# EAGLE library part STM32H753VIT (library dawidkulpa_dev)
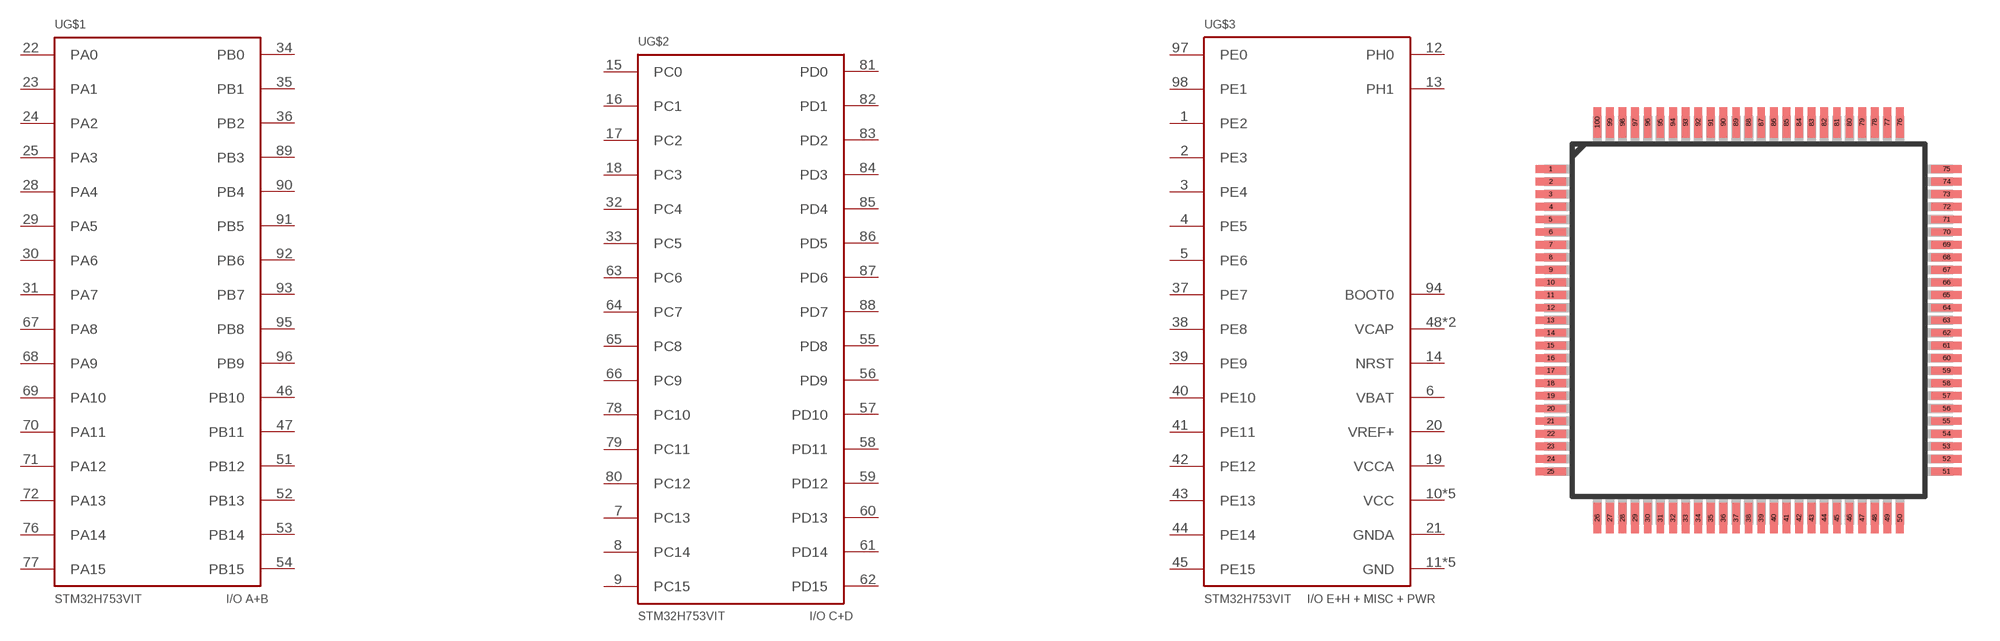
[diagram p35: symbol with the pads of LQFP100_14X14; footprint LQFP100_14X14]

Designator prefix U; gates G$1=STM32H753VIT_PART1 G$2=STM32H753VIT_PART2 G$3=STM32H753VIT_PART3

## STM32H753VIT  [LQFP100_14X14]
1  G$3:PE2
2  G$3:PE3
3  G$3:PE4
4  G$3:PE5
5  G$3:PE6
6  G$3:VBAT
7  G$2:PC13
8  G$2:PC14
9  G$2:PC15
10  G$3:VCC
11  G$3:GND
12  G$3:PH0
13  G$3:PH1
14  G$3:NRST
15  G$2:PC0
16  G$2:PC1
17  G$2:PC2
18  G$2:PC3
19  G$3:VCCA
20  G$3:VREF+
21  G$3:GNDA
22  G$1:PA0
23  G$1:PA1
24  G$1:PA2
25  G$1:PA3
26  G$3:VCC
27  G$3:GND
28  G$1:PA4
29  G$1:PA5
30  G$1:PA6
31  G$1:PA7
32  G$2:PC4
33  G$2:PC5
34  G$1:PB0
35  G$1:PB1
36  G$1:PB2
37  G$3:PE7
38  G$3:PE8
39  G$3:PE9
40  G$3:PE10
41  G$3:PE11
42  G$3:PE12
43  G$3:PE13
44  G$3:PE14
45  G$3:PE15
46  G$1:PB10
47  G$1:PB11
48  G$3:VCAP
49  G$3:VCC
50  G$3:GND
51  G$1:PB12
52  G$1:PB13
53  G$1:PB14
54  G$1:PB15
55  G$2:PD8
56  G$2:PD9
57  G$2:PD10
58  G$2:PD11
59  G$2:PD12
60  G$2:PD13
61  G$2:PD14
62  G$2:PD15
63  G$2:PC6
64  G$2:PC7
65  G$2:PC8
66  G$2:PC9
67  G$1:PA8
68  G$1:PA9
69  G$1:PA10
70  G$1:PA11
71  G$1:PA12
72  G$1:PA13
73  G$3:VCAP
74  G$3:VCC
75  G$3:GND
76  G$1:PA14
77  G$1:PA15
78  G$2:PC10
79  G$2:PC11
80  G$2:PC12
81  G$2:PD0
82  G$2:PD1
83  G$2:PD2
84  G$2:PD3
85  G$2:PD4
86  G$2:PD5
87  G$2:PD6
88  G$2:PD7
89  G$1:PB3
90  G$1:PB4
91  G$1:PB5
92  G$1:PB6
93  G$1:PB7
94  G$3:BOOT0
95  G$1:PB8
96  G$1:PB9
97  G$3:PE0
98  G$3:PE1
99  G$3:VCC
100  G$3:GND

## Footprint LQFP100_14X14 (pad centres in mm)
LQFP100_PACKAGE Auto generated by make-symbol-device-package-bsdl.ulp Rev. 44
smd 1.2 x 0.3: 1 -7.85,6; 2 -7.85,5.5; 3 -7.85,5; 4 -7.85,4.5; 5 -7.85,4; 6 -7.85,3.5; 7 -7.85,3; 8 -7.85,2.5; 9 -7.85,2; 10 -7.85,1.5; 11 -7.85,1; 12 -7.85,0.5; 13 -7.85,0; 14 -7.85,-0.5; 15 -7.85,-1; 16 -7.85,-1.5; 17 -7.85,-2; 18 -7.85,-2.5; 19 -7.85,-3; 20 -7.85,-3.5; 21 -7.85,-4; 22 -7.85,-4.5; 23 -7.85,-5; 24 -7.85,-5.5; 25 -7.85,-6; 51 7.85,-6; 52 7.85,-5.5; 53 7.85,-5; 54 7.85,-4.5; 55 7.85,-4; 56 7.85,-3.5; 57 7.85,-3; 58 7.85,-2.5; 59 7.85,-2; 60 7.85,-1.5; 61 7.85,-1; 62 7.85,-0.5; 63 7.85,0; 64 7.85,0.5; 65 7.85,1; 66 7.85,1.5; 67 7.85,2; 68 7.85,2.5; 69 7.85,3; 70 7.85,3.5; 71 7.85,4; 72 7.85,4.5; 73 7.85,5; 74 7.85,5.5; 75 7.85,6
smd 0.3 x 1.2: 26 -6,-7.85; 27 -5.5,-7.85; 28 -5,-7.85; 29 -4.5,-7.85; 30 -4,-7.85; 31 -3.5,-7.85; 32 -3,-7.85; 33 -2.5,-7.85; 34 -2,-7.85; 35 -1.5,-7.85; 36 -1,-7.85; 37 -0.5,-7.85; 38 0,-7.85; 39 0.5,-7.85; 40 1,-7.85; 41 1.5,-7.85; 42 2,-7.85; 43 2.5,-7.85; 44 3,-7.85; 45 3.5,-7.85; 46 4,-7.85; 47 4.5,-7.85; 48 5,-7.85; 49 5.5,-7.85; 50 6,-7.85; 76 6,7.85; 77 5.5,7.85; 78 5,7.85; 79 4.5,7.85; 80 4,7.85; 81 3.5,7.85; 82 3,7.85; 83 2.5,7.85; 84 2,7.85; 85 1.5,7.85; 86 1,7.85; 87 0.5,7.85; 88 0,7.85; 89 -0.5,7.85; 90 -1,7.85; 91 -1.5,7.85; 92 -2,7.85; 93 -2.5,7.85; 94 -3,7.85; 95 -3.5,7.85; 96 -4,7.85; 97 -4.5,7.85; 98 -5,7.85; 99 -5.5,7.85; 100 -6,7.85